# Altium schematic symbol library MOSFETs-SOT.SchLib: 10 symbols
Pins are listed as number, name and electrical type; pins without a type are passive.

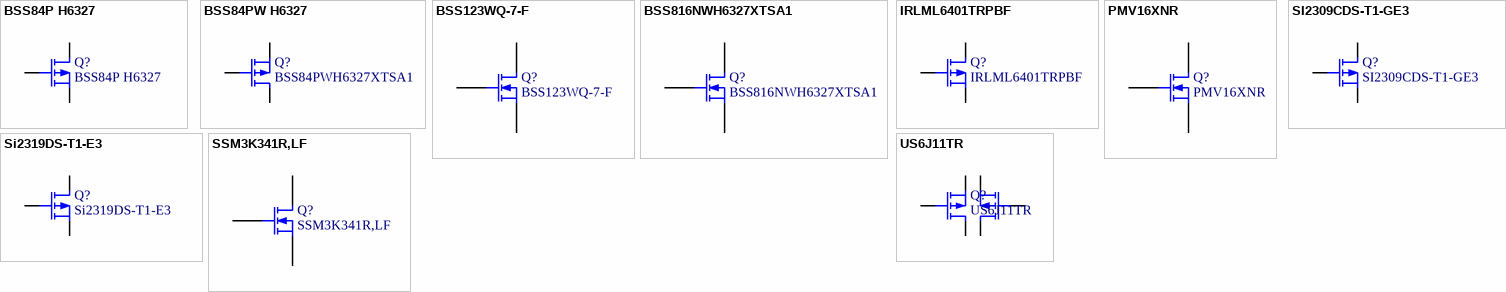
[diagram p0: symbols BSS84P H6327 to US6J11TR]

## BSS84P H6327
designator Q?
P-Channel MOSFET; Manufacturer: Infineon; Mounting Technology: Surface Mount; PartNumber: BSS84P H6327; PackageReference: SOT23-3
footprint SOT23-3
pins: 1 G, 2 D, 3 S

## BSS84PW H6327
designator Q?, comment BSS84PWH6327XTSA1
P-Channel MOSFET; Manufacturer: Infineon; Mounting Technology: Surface Mount; PartNumber: BSS84PWH6327XTSA1; PackageReference: SOT323-3
footprint SOT323-3 (SOT23, 3-Leads, Body 2.00x2.10mm, Pitch 0.65mm, IPC Medium Density)
pins: 1 G, 2 S, 3 D

## BSS123WQ-7-F
designator Q?
N-Channel MOSFET; Manufacturer: Diodes Incorporated; PartNumber: BSS123WQ-7-F; PackageReference: SOT-323-3; Mounting Technology: Surface Mount
footprint SOT323-3 (SOT23, 3-Leads, Body 2.00x2.10mm, Pitch 0.65mm, IPC Medium Density)
pins: 1 G, 2 S, 3 D

## BSS816NWH6327XTSA1
designator Q?
N-Channel MOSFET; Manufacturer: Infineon Technologies; PartNumber: BSS816NWH6327XTSA1; PackageReference: SOT-323-3; Mounting Technology: Surface Mount
footprint SOT323-3 (SOT23, 3-Leads, Body 2.00x2.10mm, Pitch 0.65mm, IPC Medium Density)
pins: 1 G, 2 S, 3 D

## IRLML6401TRPBF
designator Q?
P-Channel MOSFET; Manufacturer: Infineon; Mounting Technology: Surface Mount; PartNumber: IRLML6401TRPBF; PackageReference: SOT23-3
footprint SOT23-3
pins: 1 G, 2 D, 3 S

## PMV16XNR
designator Q?
N-Channel MOSFET; Manufacturer: NXP; PartNumber: PMV16XNR; PackageReference: SOT-23-3; Mounting Technology: Surface Mount
footprint SOT23-3; pin to pad 2>3 3>2
pins: 1 G, 2 S, 3 D

## SI2309CDS-T1-GE3
designator Q?
P-Channel MOSFET; Manufacturer: Vishay; Mounting Technology: Surface Mount; PartNumber: SI2309CDS-T1-GE3; PackageReference: SOT23-3
footprint SOT23-3
pins: 1 G, 2 D, 3 S

## Si2319DS-T1-E3
designator Q?
P-Channel MOSFET; Manufacturer: Vishay; PartNumber: Si2319DS-T1-E3 #PBF; Mounting Technology: Surface Mount; PackageReference: SOT23-3
footprint SOT23-3
pins: 1 G, 2 D, 3 S

## SSM3K341R,LF
designator Q?
N-Channel MOSFET; Manufacturer: Toshiba; PartNumber: SSM3K341R,LF; PackageReference: SOT-23-3; Mounting Technology: Surface Mount
footprint SOT23-3; pin to pad 2>3 3>2
pins: 1 G, 2 S, 3 D

## US6J11TR
designator Q?
P-Channel MOSFET; Manufacturer: ON Semiconductor; Mounting Technology: Surface Mount; PartNumber: US6J11TR; PackageReference: TUMT-6
footprint SOT-363-6FL (SOTFL, 6-Leads, Body 2.00x2.10mm, Pitch 0.65mm, IPC Medium Density)
pins: 1 S1, 2 G1, 3 D2, 4 S2, 5 G2, 6 D1